# Altium footprint library REMOTOR.PcbLib: 23 footprints (part 2 of 2)
Each footprint in its own frame and in the unit in brackets; x right, y up, seen from the top. Pads: shape width x height; smd on the part's side, far side on the other; paste and mask are expansions set on the pad; w line width, h text height; cw(c..) or ccw(c..) is an arc to the next point about the centre after c.
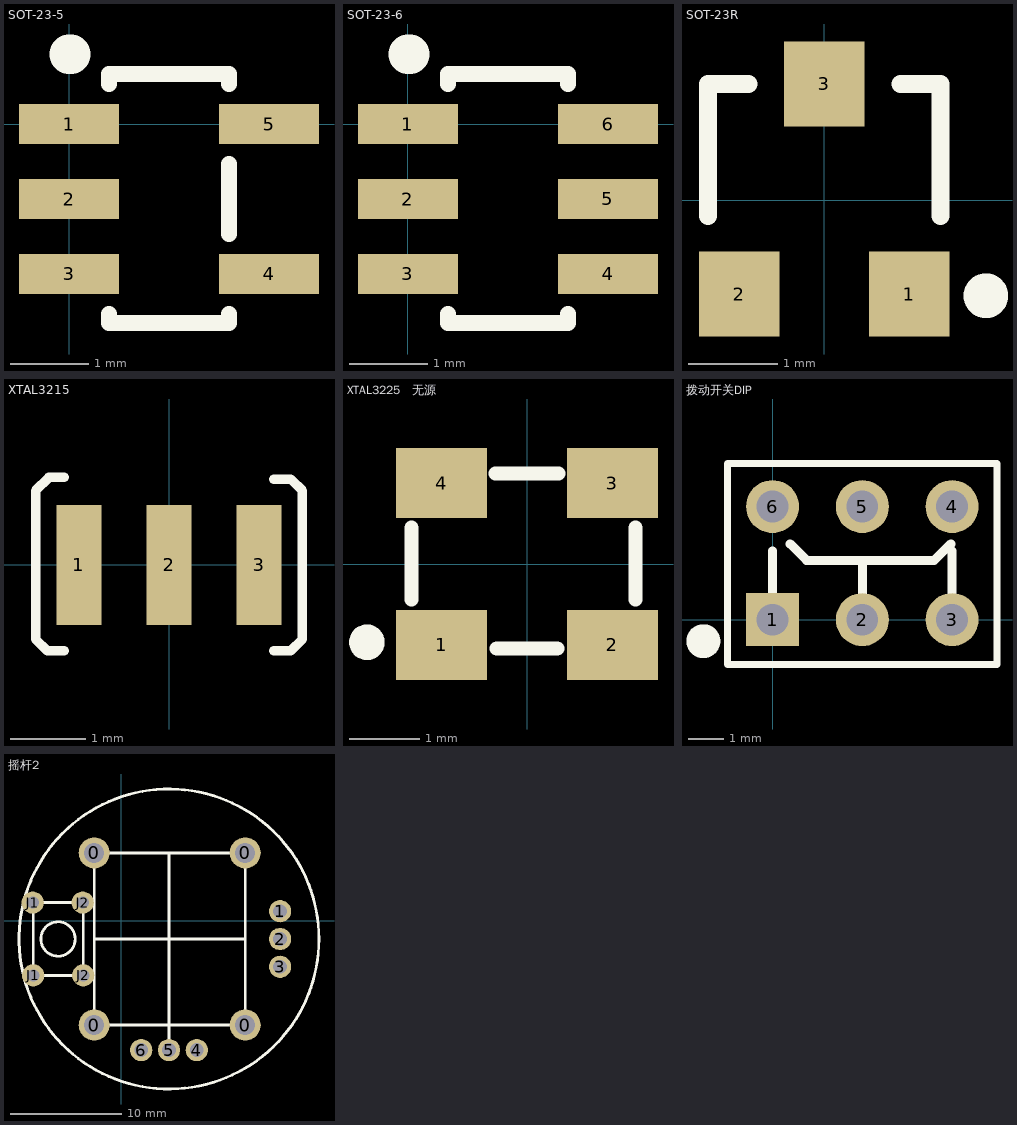
[diagram p1: the footprints below, top view; thin cyan lines are the x and y axes]

## SOT-23-5 [mil]
pads (5):
  rect 50x20 smd: 1(0,0) 2(0,-37.4) 3(0,-74.8) 4(100,-74.8) 5(100,0)
Top Overlay:
  lines w8: 20,-95 20,-99.32 80,-99.32 80,-95 ; 20,20 20,25 80,25 80,20 ; 80,-55 80,-20
  lines w19.68: 0,35 1,35

## SOT-23-6 [mil]
pads (6):
  rect 50x20 smd: 1(0,0) 2(0,-37.4) 3(0,-74.8) 4(100,-74.8) 5(100,-37.4) 6(100,0)
Top Overlay:
  lines w8: 20,-95 20,-99.32 80,-99.32 80,-95 ; 20,20 20,25 80,25 80,20
  lines w19.68: 0,35 1,35

## SOT-23R [mm]
pads (3):
  rect 0.9x0.95 smd: 1(0.95,-1.048) 2(-0.95,-1.048) 3(0,1.302)
Top Overlay:
  circle w0.25: c1.805,-1.067 r0.125
  lines w0.2: -1.3,-0.173 -1.3,1.302 -0.85,1.302 ; 0.85,1.302 1.3,1.302 1.3,-0.173

## XTAL3215 [mm]
pads (3):
  rect 0.6x1.6 smd: 1(-1.2,0) 2(0,0) 3(1.2,0)
Top Overlay:
  lines w0.127: -1.397,-1.143 -1.626,-1.143 -1.778,-0.991 -1.778,0.991 -1.6,1.168 -1.397,1.168 ; 1.397,-1.143 1.626,-1.143 1.778,-0.991 1.778,0.991 1.626,1.143 1.397,1.143

## XTAL3225   无源 [mm]
pads (4):
  rect 1.3x1 smd: 1(-1.219,-1.156) 2(1.219,-1.156) 3(1.219,1.156) 4(-1.219,1.156)
Top Overlay:
  circle w0.254: c-2.286,-1.118 r0.127
  lines w0.203: -1.651,-0.506 -1.651,0.519 ; -0.452,1.294 0.45,1.294 ; -0.432,-1.206 0.432,-1.206 ; 1.549,-0.506 1.549,0.519

## 拨动开关DIP [mm]
pads (6):
  rect 1.5x1.5 hole 0.9: 1(0,0)
  round 1.5 hole 0.9: 2(2.54,0) 3(5.08,0) 4(5.08,3.2) 5(2.54,3.2) 6(0,3.2)
Top Overlay:
  circle w0.6: c-1.958,-0.61 r0.18
  lines w0.2: 1.482,-1.27 6.35,-1.27 ; 6.35,-1.27 6.35,4.42 -1.27,4.42 -1.27,-1.27 6.35,-1.27
  lines w0.254: 0,0 0,1.948 ; 0.495,2.146 0.965,1.676 4.572,1.676 5.042,2.146 ; 2.54,0 2.54,1.676 ; 5.08,0 5.08,1.948

## 摇杆2 [mm]
pads (14):
  round 2.8 hole 1.8: 0(-2.413,-9.398) 0(-2.413,6.102) 0(11.176,-9.398) 0(11.176,6.102)
  round 2 hole 1.25: 1(14.318,0.849) 2(14.318,-1.651) 3(14.318,-4.151) 4(6.818,-11.651) 5(4.318,-11.651) 6(1.818,-11.651)
  round 2 hole 1.1: J1(-7.95,1.626) J1(-7.904,-4.925) J2(-3.45,1.626) J2(-3.404,-4.925)
Top Overlay:
  circle w0.254: c-5.664,-1.651 r1.547
  circle w0.254: c4.318,-1.651 r13.5
  lines w0.254: -7.95,1.626 -3.45,1.626 -3.404,1.579 -3.404,-4.925 -7.904,-4.925 -7.904,1.579 ; -2.413,-1.651 4.318,-1.651 ; 4.318,-11.651 4.318,-1.651 ; 4.318,6.102 4.318,-1.651 ; 11.087,-9.398 -2.413,-9.398 -2.413,6.102 11.087,6.102 ; 11.176,-9.398 11.176,6.102 ; 11.176,-1.651 4.318,-1.651